# EAGLE library part CWF-6 (library gost_con_wf)
Разъем CWF шаг 2.50 mm
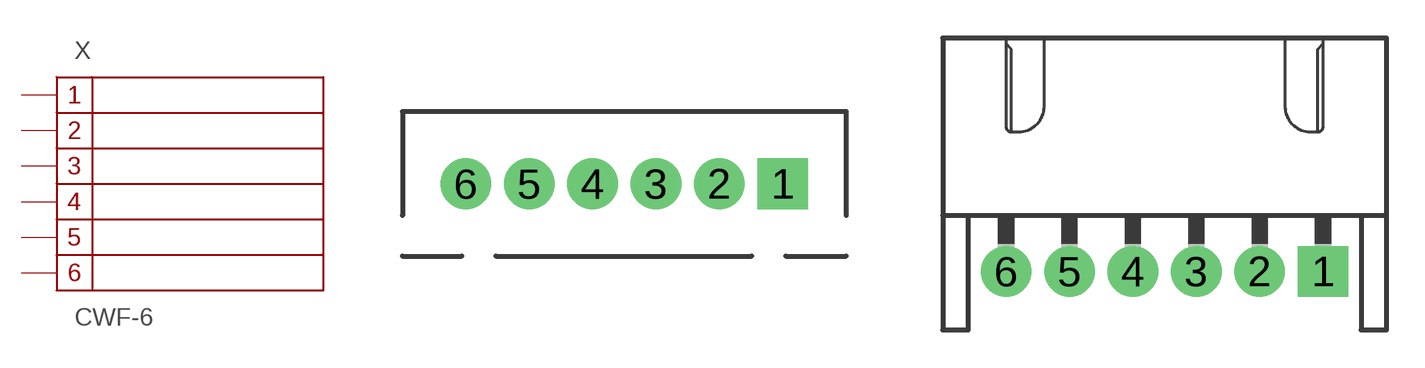
[diagram p0: symbol with the pads of CWF-6; footprints CWF-6, CWF-6R]

Designator prefix X

## CWF-6  [CWF-6]
1  1
2  2
3  3
4  4
5  5
6  6

## CWF-6R  [CWF-6R]
Pads as for CWF-6

## Footprint CWF-6 (pad centres in mm)
Разъем CWF-6 2.50mm
drill 1 pad 2 square: 1 6.25,0
drill 1 pad 2: 2 3.75,0; 3 1.25,0; 4 -1.25,0; 5 -3.75,0; 6 -6.25,0

## Footprint CWF-6R (pad centres in mm)
Разъем CWF-6R 2.50mm h=9.2mm
drill 1 pad 2 square: 1 6.25,0
drill 1 pad 2: 2 3.75,0; 3 1.25,0; 4 -1.25,0; 5 -3.75,0; 6 -6.25,0